# EAGLE library part TEENSY_3.5_SIMPLE_RTC (library HyTechDevices2)
Simple version of the Teensy 3.5 board that only uses the 2 main rows of pins, plus the perpendicular row with VBat.
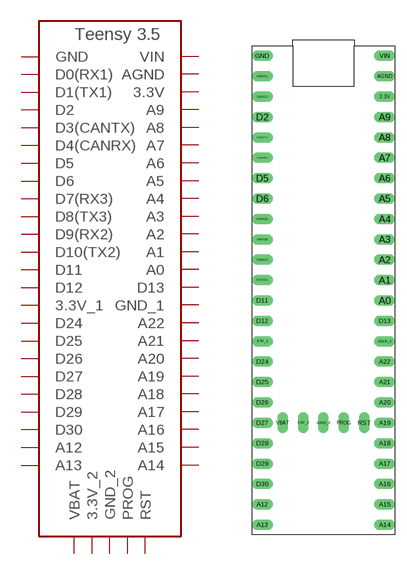
[diagram p50: symbol with the pads of TEENSY_3.5_SIMPLE_RTC; footprint TEENSY_3.5_SIMPLE_RTC]

Designator prefix -

## TEENSY_3.5_SIMPLE_RTC  [TEENSY_3.5_SIMPLE_RTC]
3.3V  3.3V
3.3V_1  3.3V_1
3.3V_2  3.3V_2
A0  A0
A1  A1
A2  A2
A3  A3
A4  A4
A5  A5
A6  A6
A7  A7
A8  A8
A9  A9
A12  A12
A13  A13
A14  A14
A15  A15
A16  A16
A17  A17
A18  A18
A19  A19
A20  A20
A21  A21
A22  A22
AGND  AGND
D0(RX1)  D0(RX1)
D1(TX1)  D1(TX1)
D2  D2
D3(CANTX)  D3(CANTX)
D4(CANRX)  D4(CANRX)
D5  D5
D6  D6
D7(RX3)  D7(RX3)
D8(TX3)  D8(TX3)
D9(RX2)  D9(RX2)
D10(TX2)  D10(TX2)
D11  D11
D12  D12
D13  D13
D24  D24
D25  D25
D26  D26
D27  D27
D28  D28
D29  D29
D30  D30
GND  GND
GND_1  GND_1
GND_2  GND_2
PROG  PROG
RST  RST
VBAT  VBAT
VIN  VIN

## Footprint TEENSY_3.5_SIMPLE_RTC (pad centres in mm)
drill 0.8 long: 3.3V 16.51,54.61; 3.3V_1 1.27,24.13; 3.3V_2 6.35,13.97; A0 16.51,29.21; A1 16.51,31.75; A2 16.51,34.29; A3 16.51,36.83; A4 16.51,39.37; A5 16.51,41.91; A6 16.51,44.45; A7 16.51,46.99; A8 16.51,49.53; A9 16.51,52.07; A12 1.27,3.81; A13 1.27,1.27; A14 16.51,1.27; A15 16.51,3.81; A16 16.51,6.35; A17 16.51,8.89; A18 16.51,11.43; A19 16.51,13.97; A20 16.51,16.51; A21 16.51,19.05; A22 16.51,21.59; AGND 16.51,57.15; D0(RX1) 1.27,57.15; D1(TX1) 1.27,54.61; D2 1.27,52.07; D3(CANTX) 1.27,49.53; D4(CANRX) 1.27,46.99; D5 1.27,44.45; D6 1.27,41.91; D7(RX3) 1.27,39.37; D8(TX3) 1.27,36.83; D9(RX2) 1.27,34.29; D10(TX2) 1.27,31.75; D11 1.27,29.21; D12 1.27,26.67; D13 16.51,26.67; D24 1.27,21.59; D25 1.27,19.05; D26 1.27,16.51; D27 1.27,13.97; D28 1.27,11.43; D29 1.27,8.89; D30 1.27,6.35; GND 1.27,59.69; GND_1 16.51,24.13; GND_2 8.89,13.97; PROG 11.43,13.97; RST 13.97,13.97; VBAT 3.81,13.97; VIN 16.51,59.69